# Altium schematic symbol library MyLib.SchLib: 2 symbols
Pins are listed as number, name and electrical type; pins without a type are passive.

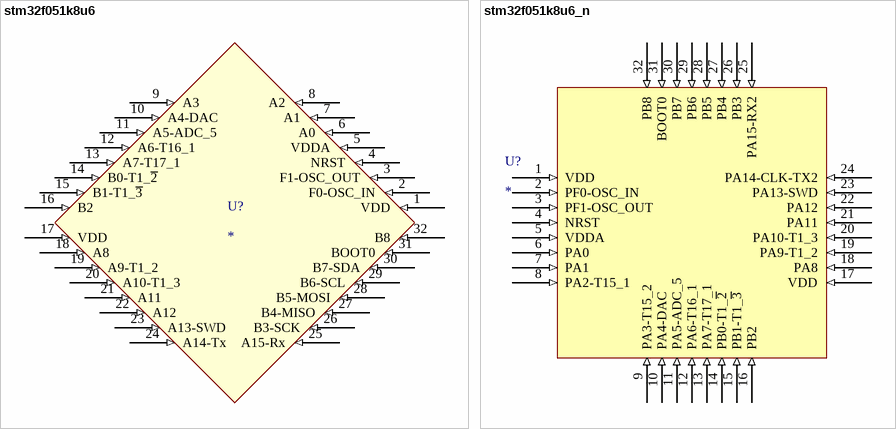
[diagram p0: symbols stm32f051k8u6 to stm32f051k8u6_n]

## stm32f051k8u6
designator U?
footprint stm32f051k8u6
pins: 1 VDD (in), 2 F0-OSC_IN (in), 3 F1-OSC_OUT (in), 4 NRST (in), 5 VDDA (in), 6 A0 (in), 7 A1 (in), 8 A2 (in), 9 A3 (in), 10 A4-DAC (in), 11 A5-ADC_5 (in), 12 A6-T16_1 (in), 13 A7-T17_1 (in), 14 B0-T1_~{2} (in), 15 B1-T1_~{3} (in), 16 B2 (in), 17 VDD (in), 18 A8 (in), 19 A9-T1_2 (in), 20 A10-T1_3 (in), 21 A11 (in), 22 A12 (in), 23 A13-SWD (in), 24 A14-Tx (in), 25 A15-Rx (in), 26 B3-SCK (in), 27 B4-MISO (in), 28 B5-MOSI (in), 29 B6-SCL (in), 30 B7-SDA (in), 31 BOOT0 (in), 32 B8 (in)

## stm32f051k8u6_n
designator U?
footprint stm32f051k8u6
pins: 1 VDD (in), 2 PF0-OSC_IN (in), 3 PF1-OSC_OUT (in), 4 NRST (in), 5 VDDA (in), 6 PA0 (in), 7 PA1 (in), 8 PA2-T15_1 (in), 9 PA3-T15_2 (in), 10 PA4-DAC (in), 11 PA5-ADC_5 (in), 12 PA6-T16_1 (in), 13 PA7-T17_1 (in), 14 PB0-T1_~{2} (in), 15 PB1-T1_~{3} (in), 16 PB2 (in), 17 VDD (in), 18 PA8 (in), 19 PA9-T1_2 (in), 20 PA10-T1_3 (in), 21 PA11 (in), 22 PA12 (in), 23 PA13-SWD (in), 24 PA14-CLK-TX2 (in), 25 PA15-RX2 (in), 26 PB3 (in), 27 PB4 (in), 28 PB5 (in), 29 PB6 (in), 30 PB7 (in), 31 BOOT0 (in), 32 PB8 (in)